# Altium schematic symbol library chip.SchLib: 107 symbols (part 2 of 2)
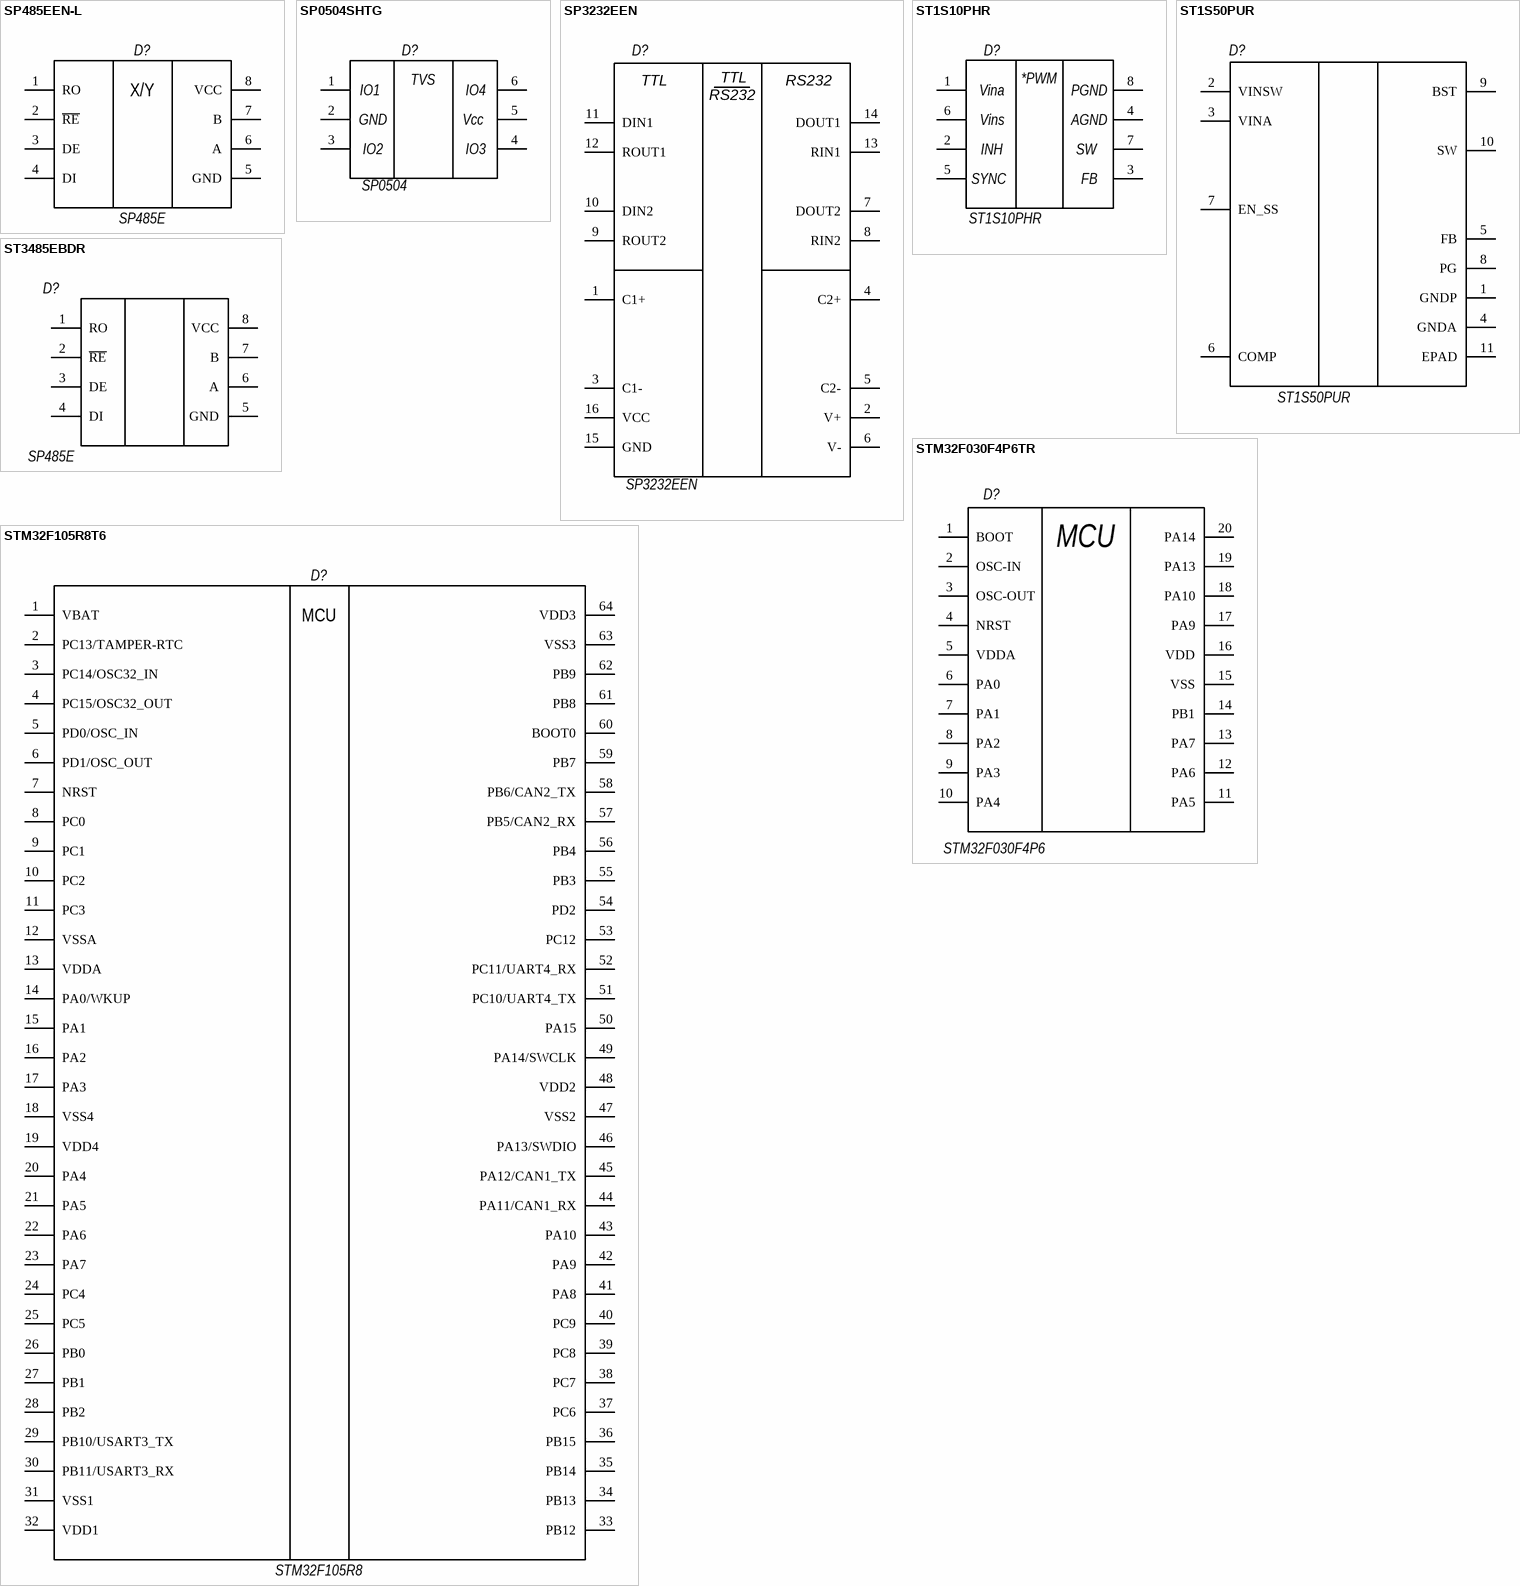
[diagram p18: symbols SP485EEN-L to STM32F105R8T6]

## ST1S10PHR
designator D?
DC-DC 2.5V to 18V Synchronous Step Down Currents up to 4A, with high switching frequency.; Manufacturer: STMicroelectronics; BOM1: SOIC-8-PowerPad ST1S10PHR; ValueBOM: ST1S10PHR   STMicroelectronics; Value: ST1S10PHR; Part Number: ST1S10PHR; Package: SOIC-8-PowerPad; BOM2: SOIC-8-PowerPad ST1S10PHR
footprint POWER_SO-8
pins: 1, 2, 3, 4, 5, 6, 7, 8
text: *PWM; Vina; PGND; Vins; AGND; INH; SW; SYNC; FB

## ST1S50PUR
designator D?
VFDFPN10 ST1S50PUR 4 A step-down switching converter; Manufacturer: ST Microelectronics; ValueBOM: ST1S50PUR   ST Microelectronics; Part Number: ST1S50PUR; Package: VFDFPN10; Value: ST1S50PUR; BOM1: VFDFPN10 ST1S50PUR; BOM2: VFDFPN10 ST1S50PUR
footprint SON50P300X100_HS-11N
pins: 1 GNDP, 2 VINSW, 3 VINA, 4 GNDA, 5 FB, 6 COMP, 7 EN_SS, 8 PG, 9 BST, 10 SW, 11 EPAD

## ST3485EBDR
designator D?, comment SP485E
SO8-RS485; Part Number: SP485EEN-L; Manufacturer: EXAR; Value: SP485E; Package: SOIC-8; Temperature Range: -40…+85°C
footprint STD_SOIC-8
pins: 1 RO, 2 ~{RE}, 3 DE, 4 DI, 5 GND, 6 A, 7 B, 8 VCC

## STM32F030F4P6TR
designator D?, comment STM32F030F4P6
STM32F0, ARM Cortex-M0+, 32-bit, 48MHz, 16К Flash, 4К RAM, 15 I/O TSSOP20; Manufacturer: STMicroelectronics; BOM1: TSSOP20 STM32F030F4P6TR; ValueBOM: STM32F030F4P6   STMicroelectronics; Part Number: STM32F030F4P6; Value: STM32F030F4P6; Package: TSSOP20; BOM2: TSSOP20 STM32F030F4P6TR
footprint TSSOP-20 (TSSOP, 20-Leads, Body 6.50x4.40mm, Pitch 0.65mm, IPC Medium Density)
pins: 1 BOOT, 2 OSC-IN, 3 OSC-OUT, 4 NRST, 5 VDDA, 6 PA0, 7 PA1, 8 PA2, 9 PA3, 10 PA4, 11 PA5, 12 PA6, 13 PA7, 14 PB1, 15 VSS, 16 VDD, 17 PA9, 18 PA10, 19 PA13, 20 PA14
text: MCU

## STM32F105R8T6
designator D?, comment STM32F105R8
LQFP64-MPU-64K-64K; Part Number: STM32F105R8T6; Manufacturer: ST Microelectronics; Value: STM32F105R8; Package: LQFP-64; Temperature Range: -40…+85°C; ComponentLink1URL: http://www.st.com/content/ccc/resource/technical/document/datasheet/e4/f3/1a/89/5a/02/46/ae/CD00220364.pdf/files/CD00220364.pdf/jcr:content/translations/en.CD00220364.pdf; ComponentLink1Description: Datasheet (Manufacturer)
footprint STD_LQFP-64
pins: 1 VBAT "Backup power supply", 2 PC13/TAMPER-RTC, 3 PC14/OSC32_IN, 4 PC15/OSC32_OUT, 5 PD0/OSC_IN, 6 PD1/OSC_OUT, 7 NRST, 8 PC0, 9 PC1, 10 PC2, 11 PC3, 12 VSSA, 13 VDDA, 14 PA0/WKUP, 15 PA1, 16 PA2, 17 PA3, 18 VSS4, 19 VDD4, 20 PA4, 21 PA5, 22 PA6, 23 PA7, 24 PC4, 25 PC5, 26 PB0, 27 PB1, 28 PB2, 29 PB10/USART3_TX, 30 PB11/USART3_RX, 31 VSS1, 32 VDD1, 33 PB12, 34 PB13, 35 PB14, 36 PB15, 37 PC6, 38 PC7, 39 PC8, 40 PC9, 41 PA8, 42 PA9, 43 PA10, 44 PA11/CAN1_RX, 45 PA12/CAN1_TX, 46 PA13/SWDIO, 47 VSS2, 48 VDD2, 49 PA14/SWCLK, 50 PA15, 51 PC10/UART4_TX, 52 PC11/UART4_RX, 53 PC12, 54 PD2, 55 PB3, 56 PB4, 57 PB5/CAN2_RX, 58 PB6/CAN2_TX, 59 PB7, 60 BOOT0, 61 PB8, 62 PB9, 63 VSS3, 64 VDD3
text: MCU

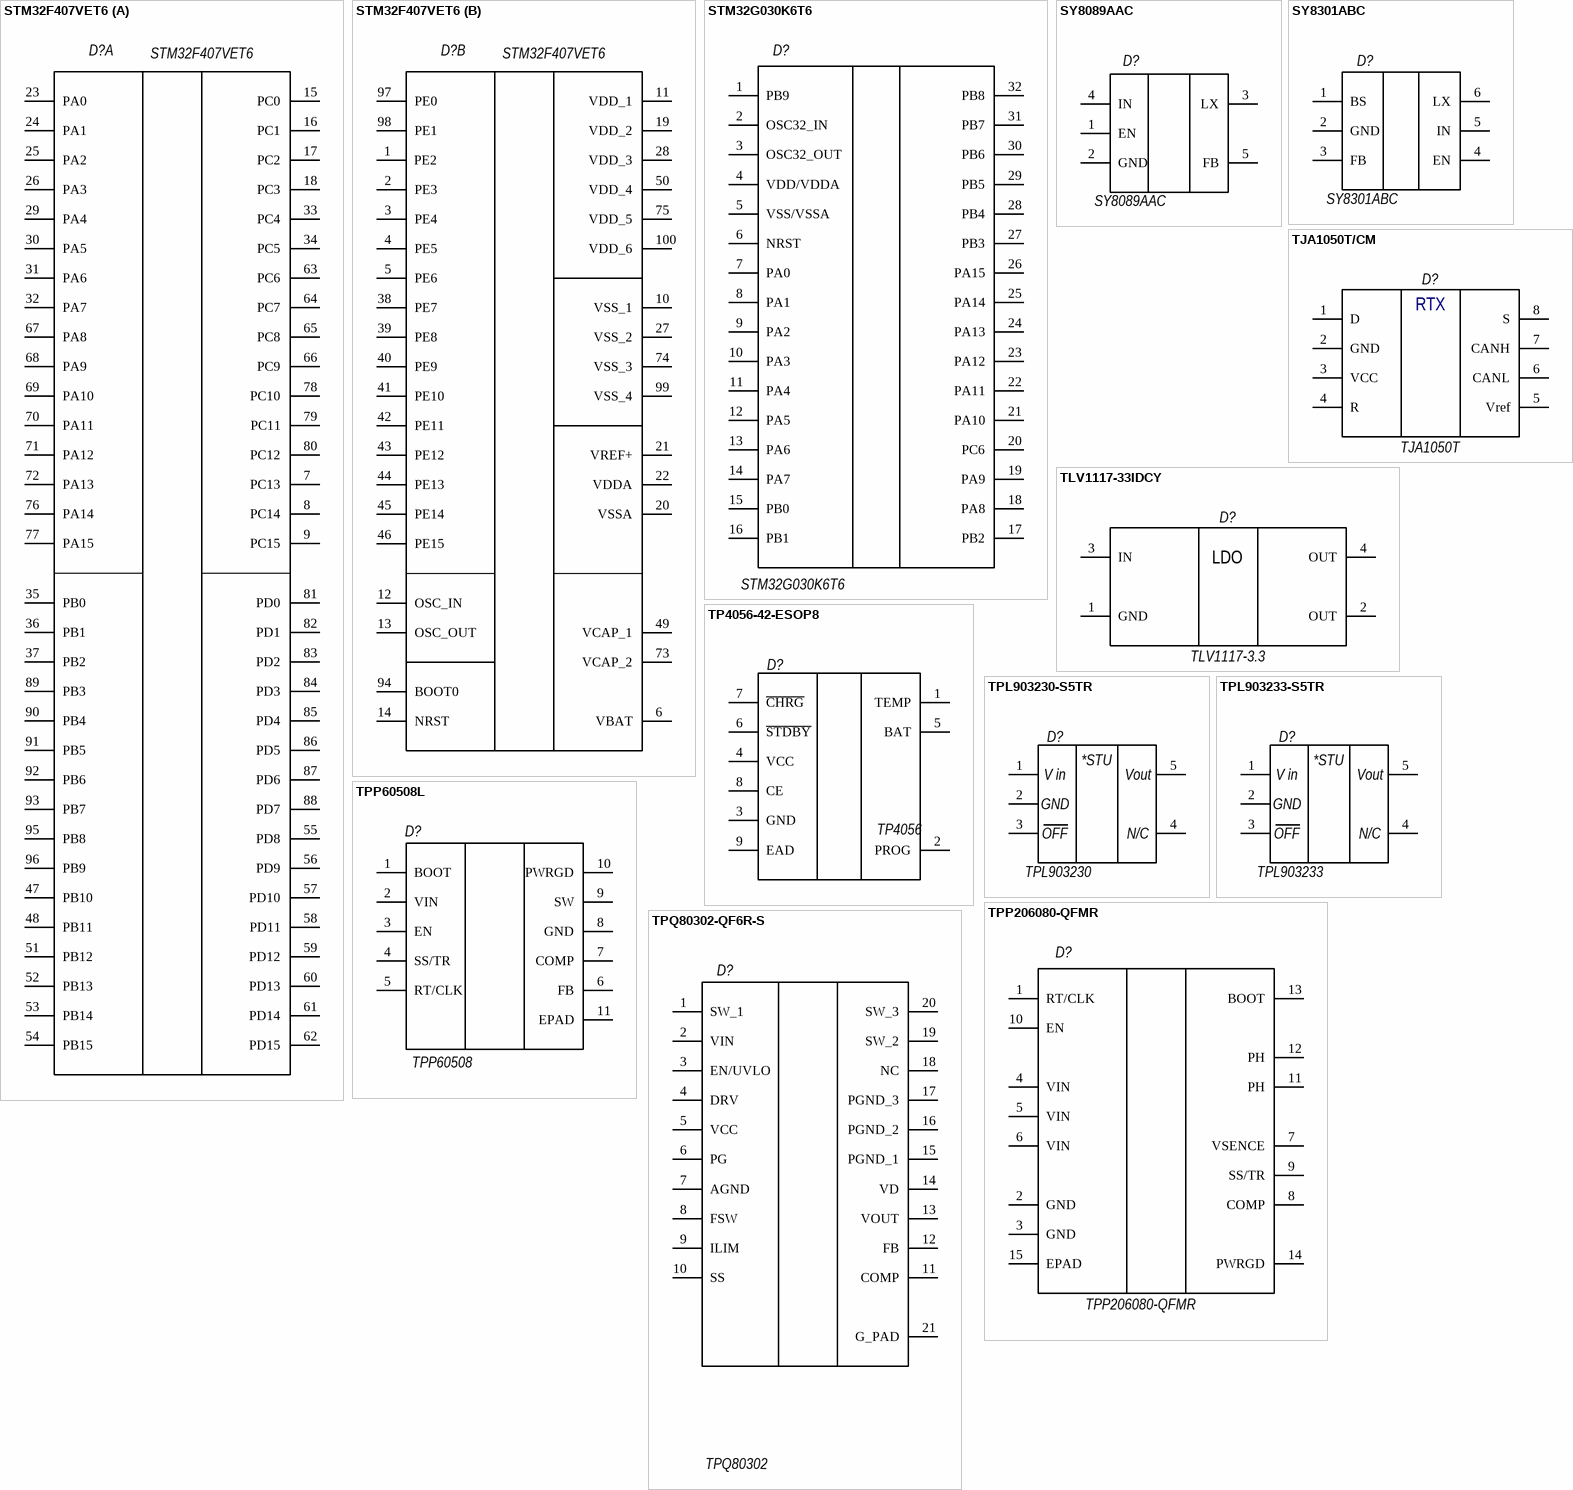
[diagram p12: symbols STM32F407VET6 to TPQ80302-QF6R-S]

## STM32F407VET6
designator D?
Arm Cortex-M4 core with DSP and FPU, 512 Kbytes of Flash memory, 168 MHz CPU, ART Accelerator, Ethernet, FSMC, LQFP 100 14x14x1.4 mm; Manufacturer: STMicroelectronics; BOM1: LQFP 100 STM32F407VET6; ValueBOM: STM32F407VET6   STMicroelectronics; Value: STM32F407VET6; Part Number: STM32F407VET6; Package: LQFP 100; BOM2: LQFP 100 STM32F407VET6
footprint QFP50P1600X1600X160-100N
part A pins: 7 PC13, 8 PC14, 9 PC15, 15 PC0, 16 PC1, 17 PC2, 18 PC3, 23 PA0, 24 PA1, 25 PA2, 26 PA3, 29 PA4, 30 PA5, 31 PA6, 32 PA7, 33 PC4, 34 PC5, 35 PB0, 36 PB1, 37 PB2, 47 PB10, 48 PB11, 51 PB12, 52 PB13, 53 PB14, 54 PB15, 55 PD8, 56 PD9, 57 PD10, 58 PD11, 59 PD12, 60 PD13, 61 PD14, 62 PD15, 63 PC6, 64 PC7, 65 PC8, 66 PC9, 67 PA8, 68 PA9, 69 PA10, 70 PA11, 71 PA12, 72 PA13, 76 PA14, 77 PA15, 78 PC10, 79 PC11, 80 PC12, 81 PD0, 82 PD1, 83 PD2, 84 PD3, 85 PD4, 86 PD5, 87 PD6, 88 PD7, 89 PB3, 90 PB4, 91 PB5, 92 PB6, 93 PB7, 95 PB8, 96 PB9
part B pins: 1 PE2, 2 PE3, 3 PE4, 4 PE5, 5 PE6, 6 VBAT, 10 VSS_1, 11 VDD_1, 12 OSC_IN, 13 OSC_OUT, 14 NRST, 19 VDD_2, 20 VSSA, 21 VREF+, 22 VDDA, 27 VSS_2, 28 VDD_3, 38 PE7, 39 PE8, 40 PE9, 41 PE10, 42 PE11, 43 PE12, 44 PE13, 45 PE14, 46 PE15, 49 VCAP_1, 50 VDD_4, 73 VCAP_2, 74 VSS_3, 75 VDD_5, 94 BOOT0, 97 PE0, 98 PE1, 99 VSS_4, 100 VDD_6

## STM32G030K6T6
designator D?
STM32G030K6T6, ARM Cortex-M0+, 32-bit, 64MHz, 32К Flash, 8К RAM, 29 I/O LQFP-32; Manufacturer: STMicroelectronics; BOM1: LQFP-32 STM32G030K6T6; ValueBOM: STM32G030K6T6   STMicroelectronics; Part Number: STM32G030K6T6; Value: STM32G030K6T6; Package: LQFP-32; ComponentLink1URL: http://www.st.com/content/ccc/resource/technical/document/datasheet/e4/f3/1a/89/5a/02/46/ae/CD00220364.pdf/files/CD00220364.pdf/jcr:content/translations/en.CD00220364.pdf; ComponentLink1Description: Datasheet (Manufacturer); BOM2: LQFP-32 STM32G030K6T6
footprint LQFP-32 (Thin QFP, 32-Leads, Body 7x7mm, Pitch 0.8mm, IPC Medium Density)
pins: 1 PB9, 2 OSC32_IN, 3 OSC32_OUT, 4 VDD/VDDA, 5 VSS/VSSA, 6 NRST, 7 PA0, 8 PA1, 9 PA2, 10 PA3, 11 PA4, 12 PA5, 13 PA6, 14 PA7, 15 PB0, 16 PB1, 17 PB2, 18 PA8, 19 PA9, 20 PC6, 21 PA10, 22 PA11, 23 PA12, 24 PA13, 25 PA14, 26 PA15, 27 PB3, 28 PB4, 29 PB5, 30 PB6, 31 PB7, 32 PB8

## SY8089AAC
designator D?
High Efficiency 5.5V, 2A continuous, 3A peak, 1MHz Synchronous Step Down Regulator; Manufacturer: Silergy; BOM1: SOT23-5 SY8089AAC; ValueBOM: SY8089AAC   Silergy; Value: SY8089AAC; Part Number: SY8089AAC; Package: SOT23-5; BOM2: SOT23-5 SY8089AAC
footprint SOT23-5N (SOT23, 5-Leads, Body 2.9x1.3mm, Pitch 0.95mm, Lead Span 2.5mm, IPC Medium Density)
footprint SOT23-5L (SOT23, 5-Leads, Body 2.9x1.3mm, Pitch 0.95mm, Lead Span 2.5mm, IPC High Density)
footprint SOT23-5M (SOT23, 5-Leads, Body 2.9x1.3mm, Pitch 0.95mm, Lead Span 2.5mm, IPC Low Density)
pins: 1 EN, 2 GND, 3 LX, 4 IN, 5 FB

## SY8301ABC
designator D?
High Efficiency 40V Input, 1A, 1.6MHz...2.4MHz Buck Adjustable 1 SOT-23-6 Voltage Regulators - DC DC Switching; Manufacturer: Silergy; BOM1: SOT23-6 SY8301ABC; ValueBOM: SY8301ABC   Silergy; Value: SY8301ABC; Part Number: SY8301ABC; Package: SOT23-6; BOM2: SOT23-6 SY8301ABC
footprint SOT23-6L (SOT23, 6-Leads, Body 2.9x1.3mm, Pitch 0.95mm, Lead Span 2.5mm, IPC High Density)
footprint SOT23-6M (SOT23, 6-Leads, Body 2.9x1.3mm, Pitch 0.95mm, Lead Span 2.5mm, IPC Low Density)
footprint SOT23-6N (SOT23, 6-Leads, Body 2.9x1.3mm, Pitch 0.95mm, Lead Span 2.5mm, IPC Medium Density)
pins: 1 BS, 2 GND, 3 FB, 4 EN, 5 IN, 6 LX

## TJA1050T/CM
designator D?, comment TJA1050T
High speed CAN transceiver SO8; Part Number: TJA1050T/CM; Manufacturer: NXP; Value: TJA1050T; Package: SOIC-8; Temperature Range: -40…+85°C
footprint STD_SOIC-8
pins: 1 D, 2 GND, 3 VCC, 4 R, 5 Vref, 6 CANL, 7 CANH, 8 S
text: RTX

## TLV1117-33IDCY
designator D?, comment TLV1117-3.3
LDO-SOT223_4-3.3V-0.8A; Part Number: TLV1117-33IDCY; Manufacturer: Texas Instruments; Value: TLV1117-3.3; Package: SOT-223-4; Temperature Range: -40…+125°C
footprint STD_SOT-223-4
pins: 1 GND, 2 OUT, 3 IN, 4 OUT
text: LDO

## TP4056-42-ESOP8
designator D?, comment TP4056
TP4056  1A Standalone Linear Li-lon Battery Charger with Thermal Regulation in SOP-8; Part Number: TP4056-42-ESOP8; Manufacturer: Nanjing Extension Microelectronics; BOM1: SOP-8 EP TP4056-42-ESOP8; ValueBOM: TP4056-42-ESOP8   Nanjing Extension Microelectronics; Value: TP4056; Package: SOP-8 EP; BOM2: SOP-8 EP TP4056-42-ESOP8
footprint POWER_SO-8
pins: 1 TEMP, 2 PROG, 3 GND, 4 VCC, 5 BAT, 6 ~{STDBY}, 7 ~{CHRG}, 8 CE, 9 EAD

## TPL903230-S5TR
designator D?, comment TPL903230
TPL903233-S5TR; Part Number: TPL903230-S5TR; Manufacturer: 3PEAK; BOM1: SOT23-5 TPL903230-S5TR; ValueBOM: TPL903230-S5TR   3PEAK; Value: TPL903230; Package: SOT23-5; BOM2: SOT23-5 TPL903230-S5TR
footprint SOT23-5N (SOT23, 5-Leads, Body 2.9x1.3mm, Pitch 0.95mm, Lead Span 2.5mm, IPC Medium Density)
pins: 1, 2, 3, 4, 5
text: *STU; V in; Vout; GND; OFF; N/C

## TPL903233-S5TR
designator D?, comment TPL903233
TPL903233-S5TR; Manufacturer: 3PEAK; BOM1: SOT23-5 TPL903233-S5TR; ValueBOM: TPL903233-S5TR   3PEAK; Value: TPL903233; Part Number: TPL903233-S5TR; Package: SOT23-5; BOM2: SOT23-5 TPL903233-S5TR
footprint SOT23-5N (SOT23, 5-Leads, Body 2.9x1.3mm, Pitch 0.95mm, Lead Span 2.5mm, IPC Medium Density)
pins: 1, 2, 3, 4, 5
text: *STU; V in; Vout; GND; OFF; N/C

## TPP60508L
designator D?, comment TPP60508
DFN4X4-10 TPP60508L1-DF9R 60-V, 5-A, Non-Synchronous Step-Down DC/DC Converter; Manufacturer: 3PEAK; ValueBOM: TPP60508L1-DF9R   3PEAK; Part Number: TPP60508L1-DF9R; Package: DFN4X4-10; Value: TPP60508; BOM1: DFN4X4-10 TPP60508L1-DF9R; BOM2: DFN4X4-10 TPP60508L1-DF9R
footprint SON80P400X400X80-11N
pins: 1 BOOT, 2 VIN, 3 EN, 4 SS/TR, 5 RT/CLK, 6 FB, 7 COMP, 8 GND, 9 SW, 10 PWRGD, 11 EPAD

## TPP206080-QFMR
designator D?
17-V Input, 6-A, Synchronous Step-Down DC-DC Voltage Converter; Manufacturer: 3PEAK; BOM1: QFN3.5X3.5-14 TPP206080-QFMR; ValueBOM: TPP206080-QFMR   3PEAK; Part Number: TPP206080-QFMR; Package: QFN3.5X3.5-14; Value: TPP206080-QFMR; BOM2: QFN3.5X3.5-14 TPP206080-QFMR
footprint QFN50P350X350X100-15N
pins: 1 RT/CLK, 2 GND, 3 GND, 4 VIN, 5 VIN, 6 VIN, 7 VSENCE, 8 COMP, 9 SS/TR, 10 EN, 11 PH, 12 PH, 13 BOOT, 14 PWRGD, 15 EPAD

## TPQ80302-QF6R-S
designator D?, comment TPQ80302
TPQ80302 80-V, 4-A Boost Converter with Load Switch; Part Number: TPQ80302-QF6R-S; Manufacturer: 3PEAK; BOM1: SMD QFN3.5X3.5-20 TPQ80302-QF6R-S; ValueBOM: TPQ80302-QF6R-S   3PEAK; Value: TPQ80302; Package: SMD QFN3.5X3.5-20; BOM2: SMD QFN3.5X3.5-20 TPQ80302-QF6R-S
footprint QFN50P350X350X80-21N-D
pins: 1 SW_1, 2 VIN, 3 EN/UVLO, 4 DRV, 5 VCC, 6 PG, 7 AGND, 8 FSW, 9 ILIM, 10 SS, 11 COMP, 12 FB, 13 VOUT, 14 VD, 15 PGND_1, 16 PGND_2, 17 PGND_3, 18 NC, 19 SW_2, 20 SW_3, 21 G_PAD

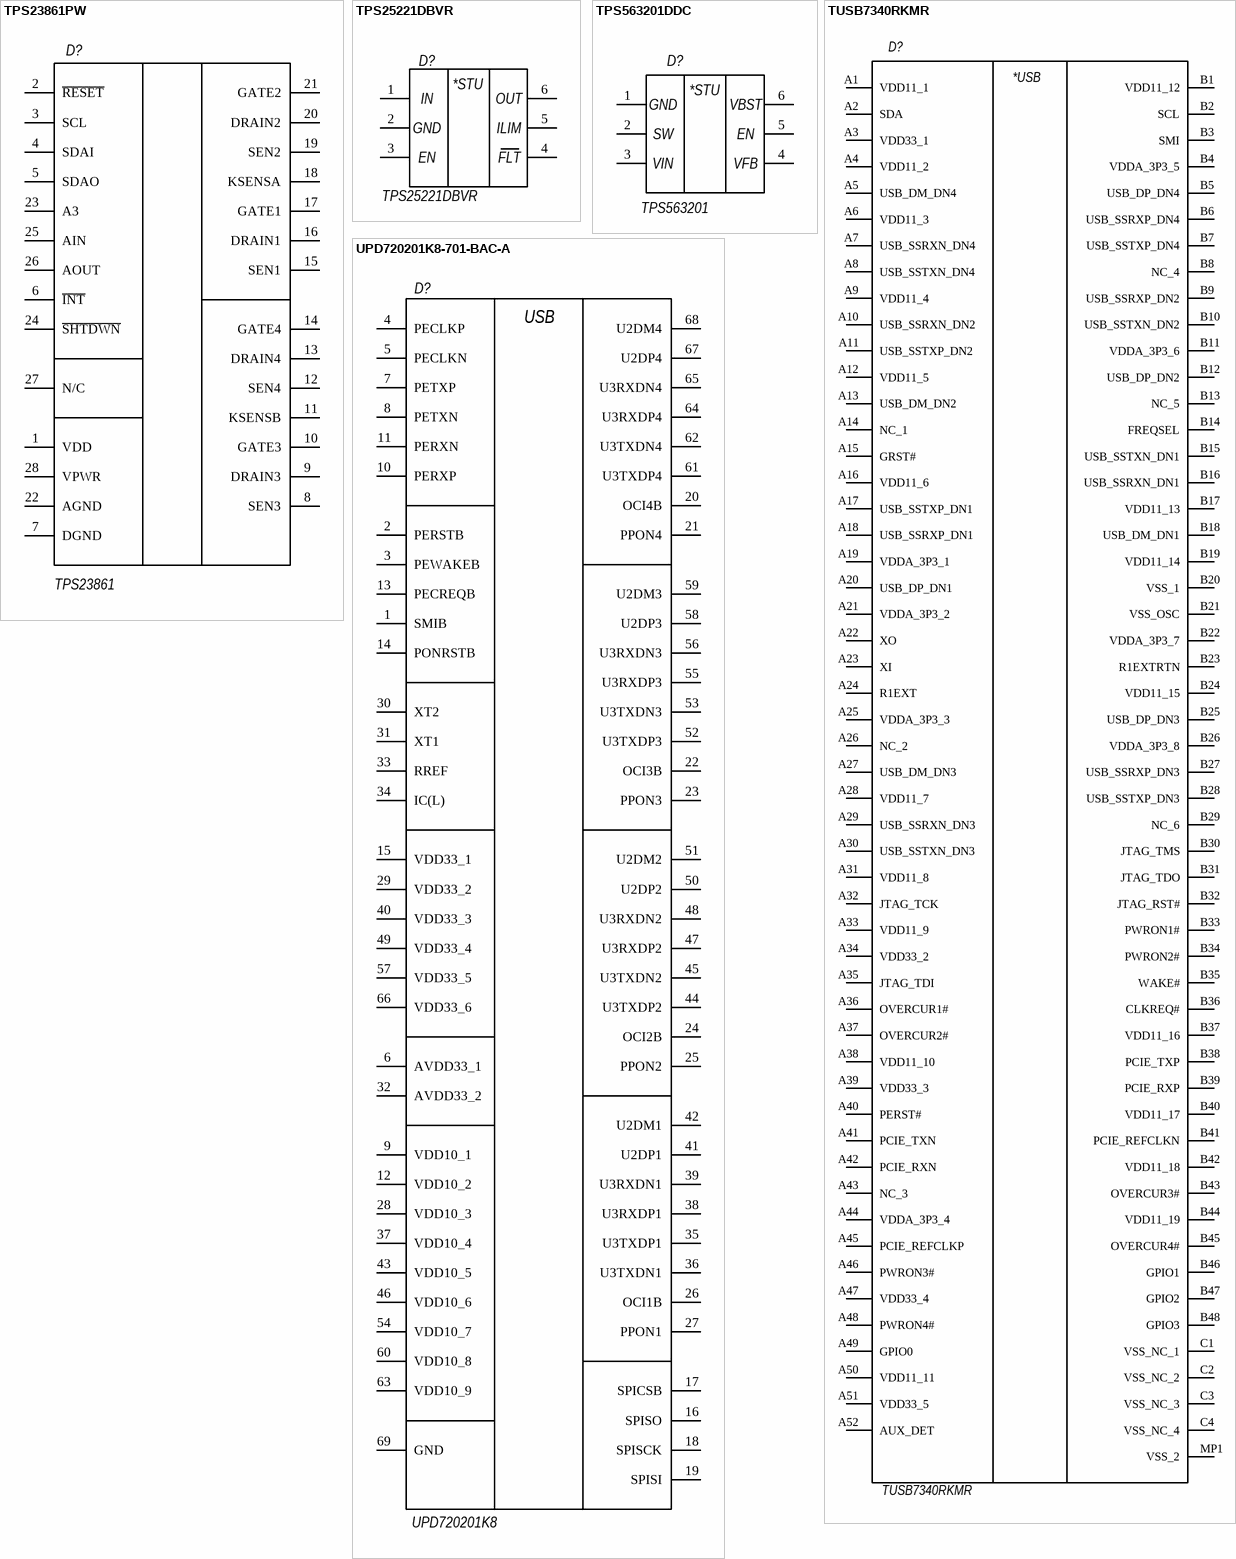
[diagram p13: symbols TPS23861PW to UPD720201K8-701-BAC-A]

## TPS23861PW
designator D?, comment TPS23861
TPS23861 IEEE 802.3at Quad Port Power-over-Ethernet PSE Controller; Manufacturer: TI; Part Number: TPS23861PW; BOM1: TSSOP-28 TPS23861PW; ValueBOM: TPS23861PW   TI; Package: TSSOP-28; Value: TPS23861; BOM2: TSSOP-28 TPS23861PW
footprint SOP65P640X120-28N
pins: 1 VDD, 2 ~{RESET}, 3 SCL, 4 SDAI, 5 SDAO, 6 ~{INT}, 7 DGND, 8 SEN3, 9 DRAIN3, 10 GATE3, 11 KSENSB, 12 SEN4, 13 DRAIN4, 14 GATE4, 15 SEN1, 16 DRAIN1, 17 GATE1, 18 KSENSA, 19 SEN2, 20 DRAIN2, 21 GATE2, 22 AGND, 23 A3, 24 ~{SHTDWN}, 25 AIN, 26 AOUT, 27 N/C, 28 VPWR

## TPS25221DBVR
designator D?
TPS25221 2.5-V to 5.5-V, 2-A Continuous Current Limited Switch; Manufacturer: Texas Instruments; BOM1: SOT23-6 TPS25221DBVR; ValueBOM: TPS25221DBVR   Texas Instruments; Value: TPS25221DBVR; Part Number: TPS25221DBVR; Package: SOT23-6; BOM2: SOT23-6 TPS25221DBVR
footprint SOT23-6N (SOT23, 6-Leads, Body 2.9x1.3mm, Pitch 0.95mm, Lead Span 2.5mm, IPC Medium Density)
footprint SOT23-6M (SOT23, 6-Leads, Body 2.9x1.3mm, Pitch 0.95mm, Lead Span 2.5mm, IPC Low Density)
footprint SOT23-6L (SOT23, 6-Leads, Body 2.9x1.3mm, Pitch 0.95mm, Lead Span 2.5mm, IPC High Density)
pins: 1, 2, 3, 4, 5, 6
text: *STU; IN; OUT; GND; ILIM; EN; FLT

## TPS563201DDC
designator D?, comment TPS563201
TPS56320x 4.5V to 17V Input, 3A Synchronous Step-Down Voltage Regulator in SOT-23; Part Number: TPS563201DDC; Manufacturer: Texas Instruments; BOM1: SOT23-6 TPS563201DDC; ValueBOM: TPS563201DDC   Texas Instruments; Value: TPS563201; Package: SOT23-6; BOM2: SOT23-6 TPS563201DDC
footprint SOT23-6N (SOT23, 6-Leads, Body 2.9x1.3mm, Pitch 0.95mm, Lead Span 2.5mm, IPC Medium Density)
footprint SOT23-6M (SOT23, 6-Leads, Body 2.9x1.3mm, Pitch 0.95mm, Lead Span 2.5mm, IPC Low Density)
footprint SOT23-6L (SOT23, 6-Leads, Body 2.9x1.3mm, Pitch 0.95mm, Lead Span 2.5mm, IPC High Density)
pins: 1, 2, 3, 4, 5, 6
1 alternate drawing of the same symbol
text: *STU; GND; VBST; SW; EN; VIN; VFB

## TUSB7340RKMR
designator D?
TUSB7340RKMR, Super Speed Host Controller USB 2.0/USB 3.0 1.1V/3.3V T/R 100-Pin WQFN EP; Manufacturer: Texas Instruments; BOM1: 100-Pin WQFN EP TUSB7340RKMR; ValueBOM: TUSB7340RKMR   Texas Instruments; Value: TUSB7340RKMR; Part Number: TUSB7340RKMR; Package: 100-Pin WQFN EP; BOM2: 100-Pin WQFN EP TUSB7340RKMR
footprint TUSB7340RKMR
pins: A1 VDD11_1, A2 SDA, A3 VDD33_1, A4 VDD11_2, A5 USB_DM_DN4, A6 VDD11_3, A7 USB_SSRXN_DN4, A8 USB_SSTXN_DN4, A9 VDD11_4, A10 USB_SSRXN_DN2, A11 USB_SSTXP_DN2, A12 VDD11_5, A13 USB_DM_DN2, A14 NC_1, A15 GRST#, A16 VDD11_6, A17 USB_SSTXP_DN1, A18 USB_SSRXP_DN1, A19 VDDA_3P3_1, A20 USB_DP_DN1, A21 VDDA_3P3_2, A22 XO, A23 XI, A24 R1EXT, A25 VDDA_3P3_3, A26 NC_2, A27 USB_DM_DN3, A28 VDD11_7, A29 USB_SSRXN_DN3, A30 USB_SSTXN_DN3, A31 VDD11_8, A32 JTAG_TCK, A33 VDD11_9, A34 VDD33_2, A35 JTAG_TDI, A36 OVERCUR1#, A37 OVERCUR2#, A38 VDD11_10, A39 VDD33_3, A40 PERST#, A41 PCIE_TXN, A42 PCIE_RXN, A43 NC_3, A44 VDDA_3P3_4, A45 PCIE_REFCLKP, A46 PWRON3#, A47 VDD33_4, A48 PWRON4#, A49 GPIO0, A50 VDD11_11, A51 VDD33_5, A52 AUX_DET, B1 VDD11_12, B2 SCL, B3 SMI, B4 VDDA_3P3_5, B5 USB_DP_DN4, B6 USB_SSRXP_DN4, B7 USB_SSTXP_DN4, B8 NC_4, B9 USB_SSRXP_DN2, B10 USB_SSTXN_DN2, B11 VDDA_3P3_6, B12 USB_DP_DN2, B13 NC_5, B14 FREQSEL, B15 USB_SSTXN_DN1, B16 USB_SSRXN_DN1, B17 VDD11_13, B18 USB_DM_DN1, B19 VDD11_14, B20 VSS_1, B21 VSS_OSC, B22 VDDA_3P3_7, B23 R1EXTRTN, B24 VDD11_15, B25 USB_DP_DN3, B26 VDDA_3P3_8, B27 USB_SSRXP_DN3, B28 USB_SSTXP_DN3, B29 NC_6, B30 JTAG_TMS, B31 JTAG_TDO, B32 JTAG_RST#, B33 PWRON1#, B34 PWRON2#, B35 WAKE#, B36 CLKREQ#, B37 VDD11_16, B38 PCIE_TXP, B39 PCIE_RXP, B40 VDD11_17, B41 PCIE_REFCLKN, B42 VDD11_18, B43 OVERCUR3#, B44 VDD11_19, B45 OVERCUR4#, B46 GPIO1, B47 GPIO2, B48 GPIO3, C1 VSS_NC_1, C2 VSS_NC_2, C3 VSS_NC_3, C4 VSS_NC_4, MP1 VSS_2
text: *USB

## UPD720201K8-701-BAC-A
designator D?, comment UPD720201K8
USB host controller LSI compatible with the USB 3.0 and xHCI (eXtensible Host Controller Interface) 1.0 specifications.; Manufacturer: Renesas; Part Number: UPD720201K8-701-BAC-A; BOM1: 68-pin QFN (8 × 8) UPD720201K8-701-BAC-A; ValueBOM: UPD720201K8-701-BAC-A   Renesas; Package: 68-pin QFN (8 × 8); Value: UPD720201K8; BOM2: 68-pin QFN (8 × 8) UPD720201K8-701-BAC-A
footprint QFN40P800X800X90-69N-D
pins: 1 SMIB, 2 PERSTB, 3 PEWAKEB, 4 PECLKP, 5 PECLKN, 6 AVDD33_1, 7 PETXP, 8 PETXN, 9 VDD10_1, 10 PERXP, 11 PERXN, 12 VDD10_2, 13 PECREQB, 14 PONRSTB, 15 VDD33_1, 16 SPISO, 17 SPICSB, 18 SPISCK, 19 SPISI, 20 OCI4B, 21 PPON4, 22 OCI3B, 23 PPON3, 24 OCI2B, 25 PPON2, 26 OCI1B, 27 PPON1, 28 VDD10_3, 29 VDD33_2, 30 XT2, 31 XT1, 32 AVDD33_2, 33 RREF, 34 IC(L), 35 U3TXDP1, 36 U3TXDN1, 37 VDD10_4, 38 U3RXDP1, 39 U3RXDN1, 40 VDD33_3, 41 U2DP1, 42 U2DM1, 43 VDD10_5, 44 U3TXDP2, 45 U3TXDN2, 46 VDD10_6, 47 U3RXDP2, 48 U3RXDN2, 49 VDD33_4, 50 U2DP2, 51 U2DM2, 52 U3TXDP3, 53 U3TXDN3, 54 VDD10_7, 55 U3RXDP3, 56 U3RXDN3, 57 VDD33_5, 58 U2DP3, 59 U2DM3, 60 VDD10_8, 61 U3TXDP4, 62 U3TXDN4, 63 VDD10_9, 64 U3RXDP4, 65 U3RXDN4, 66 VDD33_6, 67 U2DP4, 68 U2DM4, 69 GND
text: USB

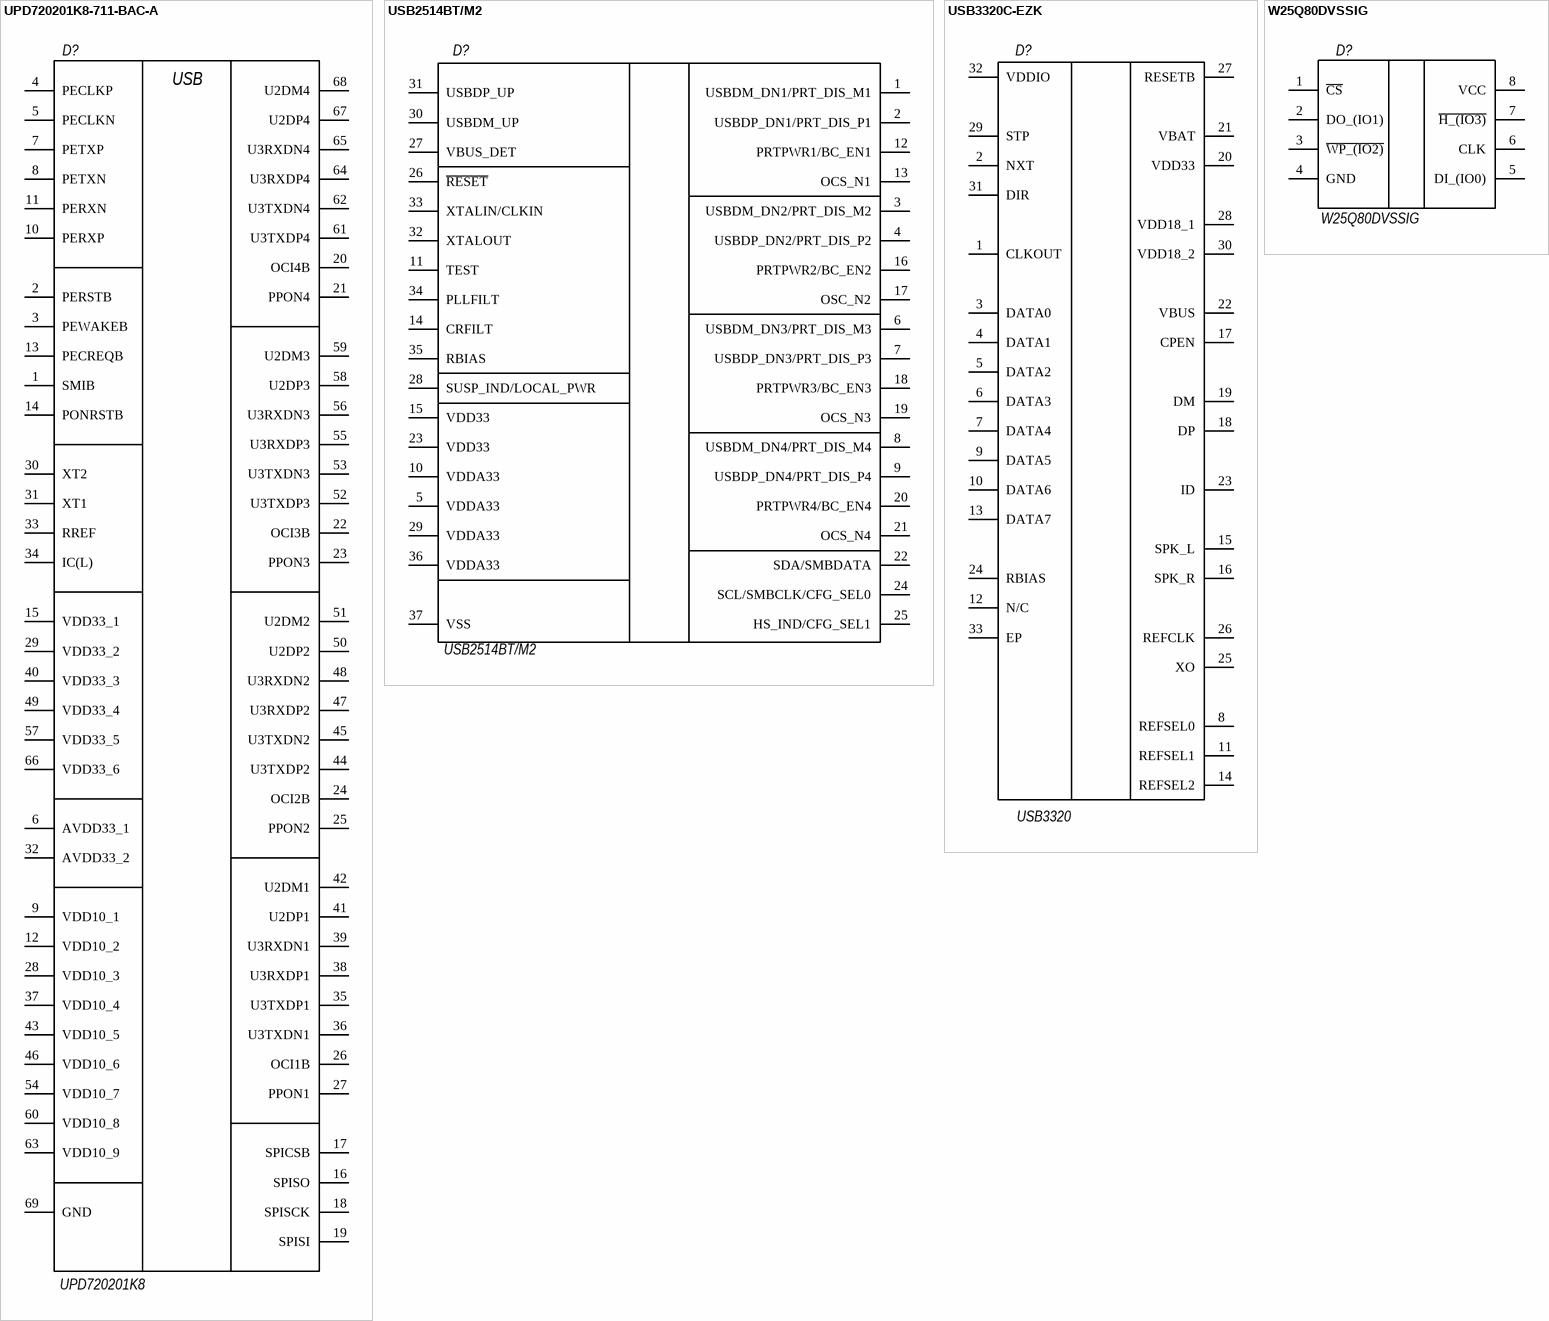
[diagram p14: symbols UPD720201K8-711-BAC-A to W25Q80DVSSIG]

## UPD720201K8-711-BAC-A
designator D?, comment UPD720201K8
USB host controller LSI compatible with the USB 3.0 and xHCI (eXtensible Host Controller Interface) 1.0 specifications.; Manufacturer: Renesas; Part Number: UPD720201K8-711-BAC-A; BOM1: 68-pin QFN (8 × 8) UPD720201K8-711-BAC-A; ValueBOM: UPD720201K8-711-BAC-A   Renesas; Package: 68-pin QFN (8 × 8); Value: UPD720201K8; BOM2: 68-pin QFN (8 × 8) UPD720201K8-711-BAC-A
footprint QFN40P800X800X90-69N-D
pins: 1 SMIB, 2 PERSTB, 3 PEWAKEB, 4 PECLKP, 5 PECLKN, 6 AVDD33_1, 7 PETXP, 8 PETXN, 9 VDD10_1, 10 PERXP, 11 PERXN, 12 VDD10_2, 13 PECREQB, 14 PONRSTB, 15 VDD33_1, 16 SPISO, 17 SPICSB, 18 SPISCK, 19 SPISI, 20 OCI4B, 21 PPON4, 22 OCI3B, 23 PPON3, 24 OCI2B, 25 PPON2, 26 OCI1B, 27 PPON1, 28 VDD10_3, 29 VDD33_2, 30 XT2, 31 XT1, 32 AVDD33_2, 33 RREF, 34 IC(L), 35 U3TXDP1, 36 U3TXDN1, 37 VDD10_4, 38 U3RXDP1, 39 U3RXDN1, 40 VDD33_3, 41 U2DP1, 42 U2DM1, 43 VDD10_5, 44 U3TXDP2, 45 U3TXDN2, 46 VDD10_6, 47 U3RXDP2, 48 U3RXDN2, 49 VDD33_4, 50 U2DP2, 51 U2DM2, 52 U3TXDP3, 53 U3TXDN3, 54 VDD10_7, 55 U3RXDP3, 56 U3RXDN3, 57 VDD33_5, 58 U2DP3, 59 U2DM3, 60 VDD10_8, 61 U3TXDP4, 62 U3TXDN4, 63 VDD10_9, 64 U3RXDP4, 65 U3RXDN4, 66 VDD33_6, 67 U2DP4, 68 U2DM4, 69 GND
text: USB

## USB2514BT/M2
designator D?
USB Interface 36-SQFN (6x6); Manufacturer: Microchip; BOM1: VFQFN-36 USB2514BT/M2; ValueBOM: USB2514BT/M2   Microchip; Package: VFQFN-36; Value: USB2514BT/M2; Part Number: USB2514BT/M2; BOM2: VFQFN-36 USB2514BT/M2
footprint QFN50P600X600X100-37N
pins: 1 USBDM_DN1/PRT_DIS_M1, 2 USBDP_DN1/PRT_DIS_P1, 3 USBDM_DN2/PRT_DIS_M2, 4 USBDP_DN2/PRT_DIS_P2, 5 VDDA33, 6 USBDM_DN3/PRT_DIS_M3, 7 USBDP_DN3/PRT_DIS_P3, 8 USBDM_DN4/PRT_DIS_M4, 9 USBDP_DN4/PRT_DIS_P4, 10 VDDA33, 11 TEST, 12 PRTPWR1/BC_EN1, 13 OCS_N1, 14 CRFILT, 15 VDD33, 16 PRTPWR2/BC_EN2, 17 OSC_N2, 18 PRTPWR3/BC_EN3, 19 OCS_N3, 20 PRTPWR4/BC_EN4, 21 OCS_N4, 22 SDA/SMBDATA, 23 VDD33, 24 SCL/SMBCLK/CFG_SEL0, 25 HS_IND/CFG_SEL1, 26 ~{RESET}, 27 VBUS_DET, 28 SUSP_IND/LOCAL_PWR, 29 VDDA33, 30 USBDM_UP, 31 USBDP_UP, 32 XTALOUT, 33 XTALIN/CLKIN, 34 PLLFILT, 35 RBIAS, 36 VDDA33, 37 VSS

## USB3320C-EZK
designator D?, comment USB3320
USB Interface 36-SQFN (6x6); Manufacturer: Microchip; Part Number: USB3320C-EZK; BOM1: QFN32-EPAD USB2514BT/M2; ValueBOM: USB3320C-EZK   Microchip; Package: QFN32-EPAD; Value: USB3320; BOM2: QFN32-EPAD USB2514BT/M2
footprint QFN32-EPAD_5X5_P050 (QFN50P500X500X100-33N)
pins: 1 CLKOUT, 2 NXT, 3 DATA0, 4 DATA1, 5 DATA2, 6 DATA3, 7 DATA4, 8 REFSEL0, 9 DATA5, 10 DATA6, 11 REFSEL1, 12 N/C, 13 DATA7, 14 REFSEL2, 15 SPK_L, 16 SPK_R, 17 CPEN, 18 DP, 19 DM, 20 VDD33, 21 VBAT, 22 VBUS, 23 ID, 24 RBIAS, 25 XO, 26 REFCLK, 27 RESETB, 28 VDD18_1, 29 STP, 30 VDD18_2, 31 DIR, 32 VDDIO, 33 EP

## W25Q80DVSSIG
designator D?
Manufacturer: Winbond; BOM1: SOIC-8 208mil W25Q80DVSSIG; ValueBOM: W25Q80DVSSIG   Winbond; Value: W25Q80DVSSIG; Part Number: W25Q80DVSSIG; Package: SOIC-8 208mil; BOM2: SOIC-8 208mil W25Q80DVSSIG
footprint SOIC-8N-150
footprint SOIC-8N-208
pins: 1 ~{CS}, 2 DO_(IO1), 3 ~{WP_(IO2)}, 4 GND, 5 DI_(IO0), 6 CLK, 7 ~{H_(IO3)}, 8 VCC

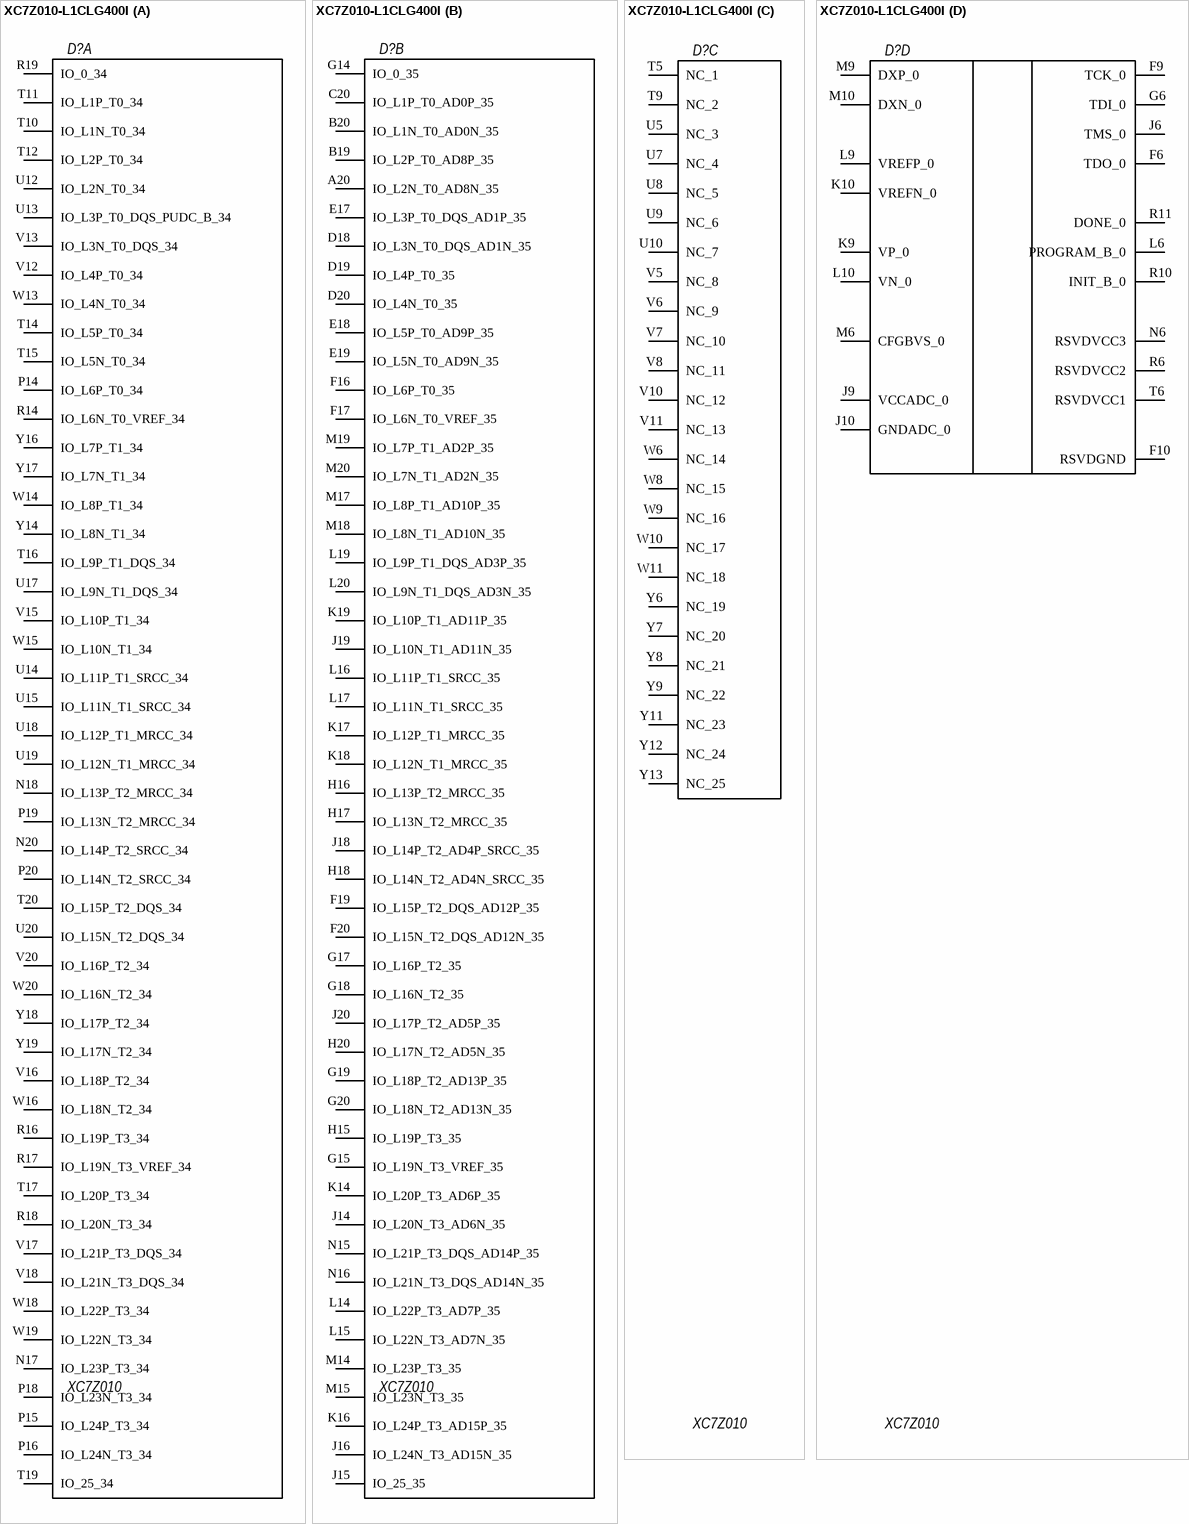
[diagram p15: symbol XC7Z010-L1CLG400I]

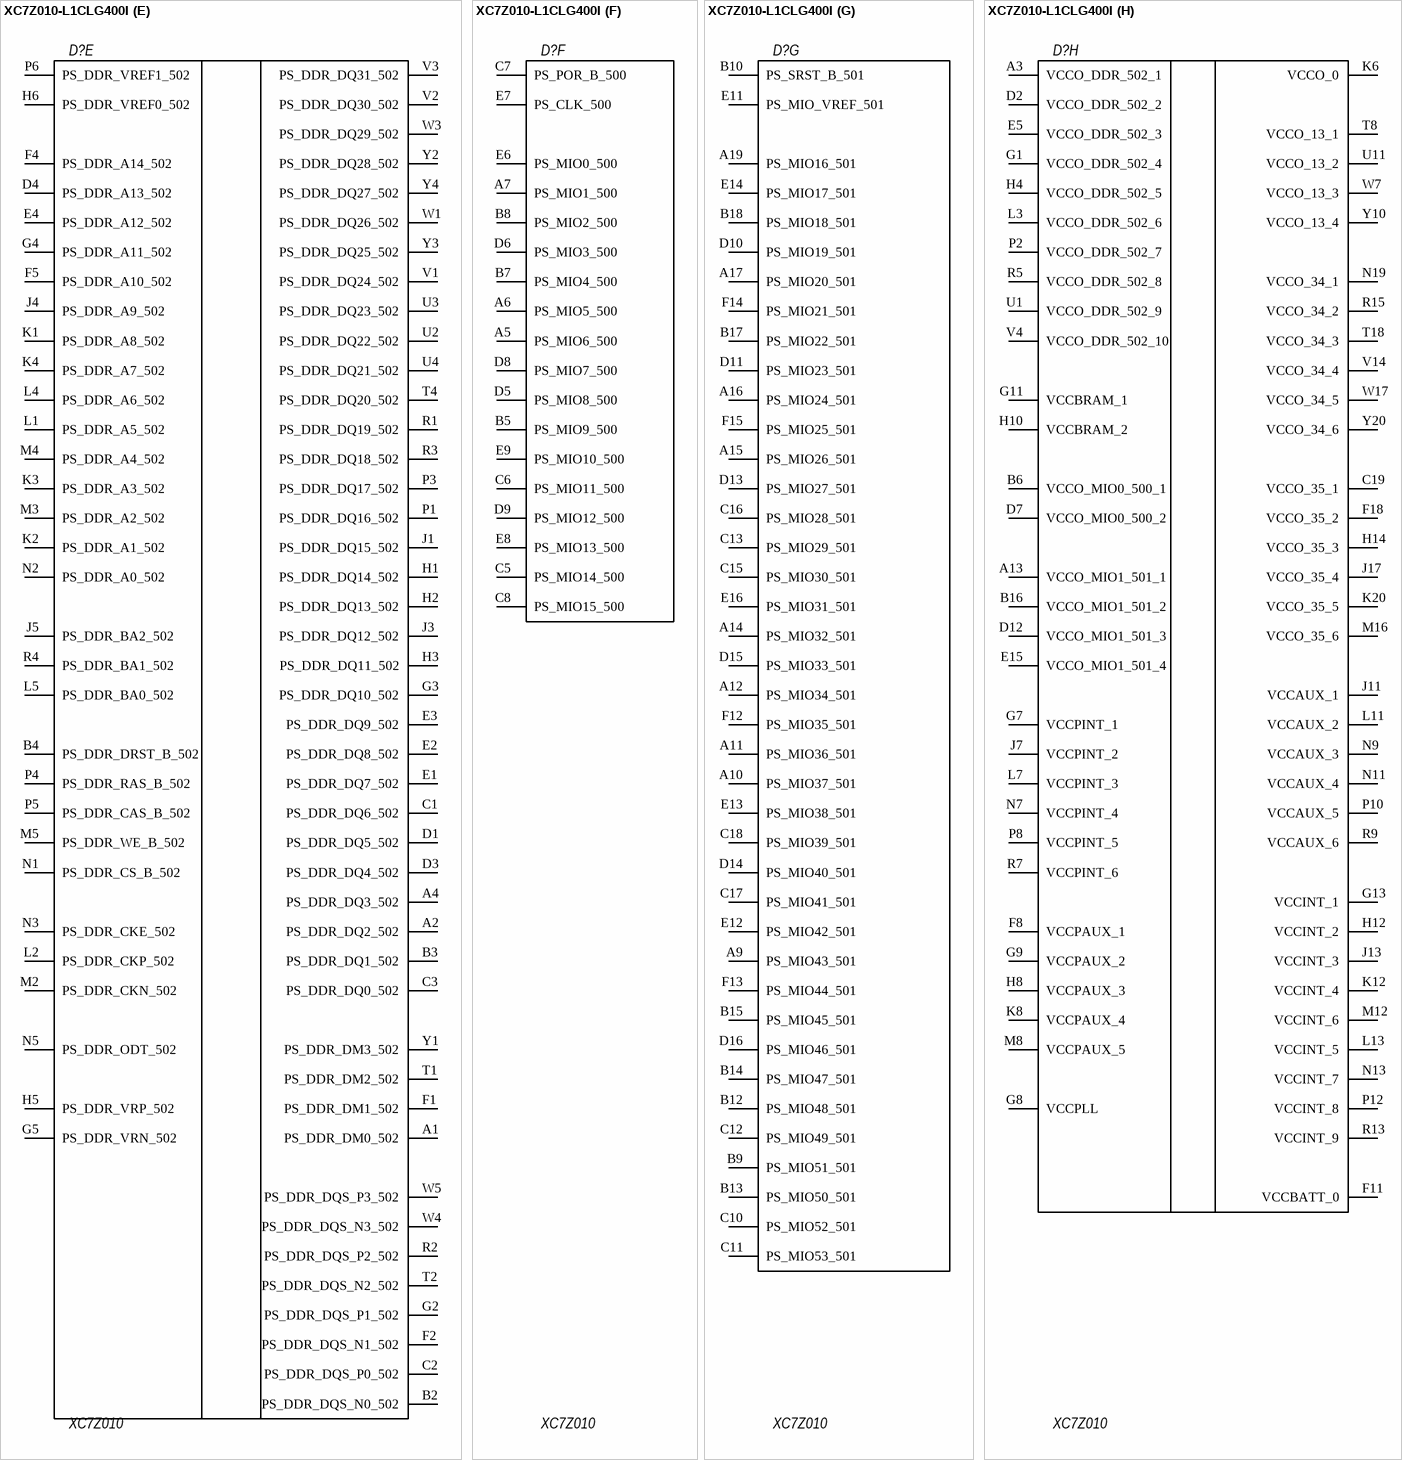
[diagram p16: symbol XC7Z010-L1CLG400I]

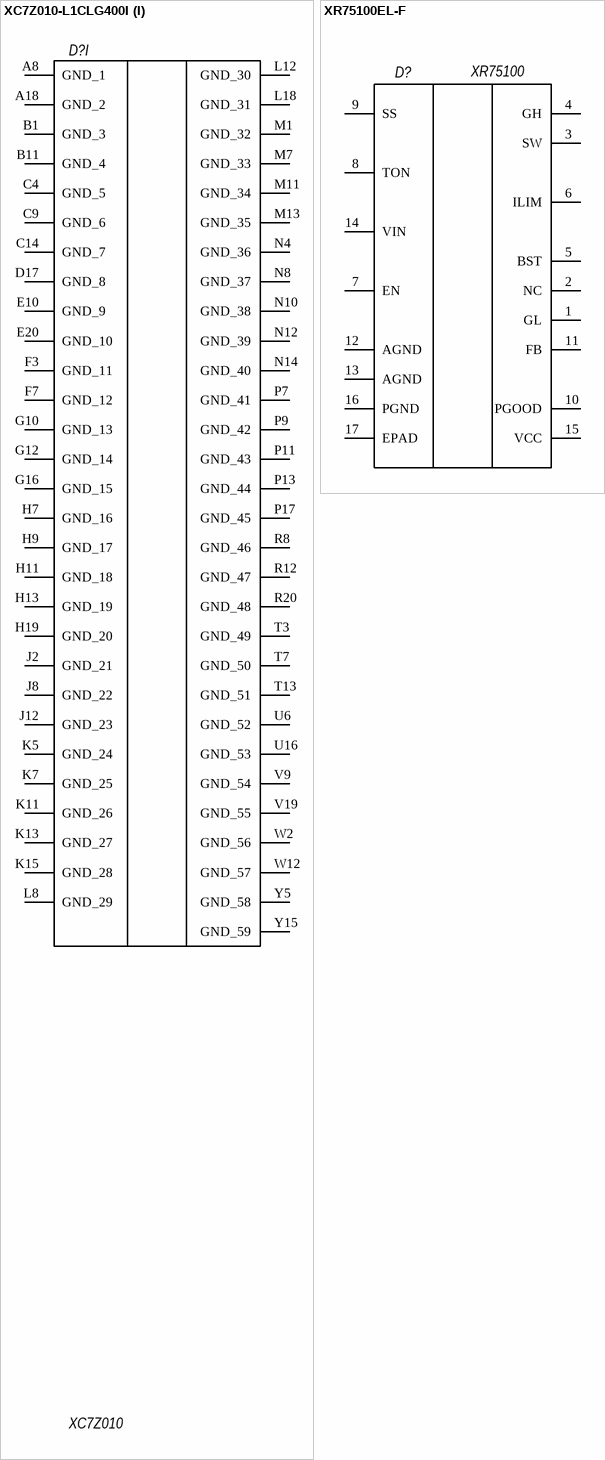
[diagram p17: symbols XC7Z010-L1CLG400I to XR75100EL-F]

## XC7Z010-L1CLG400I
designator D?, comment XC7Z010
BGA400C80P20X20 XC7Z010-L1CLG400I; Manufacturer: AMD; ValueBOM: XC7Z010-L1CLG400I   AMD; Part Number: XC7Z010-L1CLG400I; Package: BGA400C80P20X20; Value: XC7Z010; BOM1: BGA400C80P20X20 XC7Z010-L1CLG400I; BOM2: BGA400C80P20X20 XC7Z010-L1CLG400I
footprint XC7Z010-1CLG400I CLG400--0.35 (XC7Z010-1CLG400I CLG400--0.35mm)
part A pins: N17 IO_L23P_T3_34, N18 IO_L13P_T2_MRCC_34, N20 IO_L14P_T2_SRCC_34, P14 IO_L6P_T0_34, P15 IO_L24P_T3_34, P16 IO_L24N_T3_34, P18 IO_L23N_T3_34, P19 IO_L13N_T2_MRCC_34, P20 IO_L14N_T2_SRCC_34, R14 IO_L6N_T0_VREF_34, R16 IO_L19P_T3_34, R17 IO_L19N_T3_VREF_34, R18 IO_L20N_T3_34, R19 IO_0_34, T10 IO_L1N_T0_34, T11 IO_L1P_T0_34, T12 IO_L2P_T0_34, T14 IO_L5P_T0_34, T15 IO_L5N_T0_34, T16 IO_L9P_T1_DQS_34, T17 IO_L20P_T3_34, T19 IO_25_34, T20 IO_L15P_T2_DQS_34, U12 IO_L2N_T0_34, U13 IO_L3P_T0_DQS_PUDC_B_34, U14 IO_L11P_T1_SRCC_34, U15 IO_L11N_T1_SRCC_34, U17 IO_L9N_T1_DQS_34, U18 IO_L12P_T1_MRCC_34, U19 IO_L12N_T1_MRCC_34, U20 IO_L15N_T2_DQS_34, V12 IO_L4P_T0_34, V13 IO_L3N_T0_DQS_34, V15 IO_L10P_T1_34, V16 IO_L18P_T2_34, V17 IO_L21P_T3_DQS_34, V18 IO_L21N_T3_DQS_34, V20 IO_L16P_T2_34, W13 IO_L4N_T0_34, W14 IO_L8P_T1_34, W15 IO_L10N_T1_34, W16 IO_L18N_T2_34, W18 IO_L22P_T3_34, W19 IO_L22N_T3_34, W20 IO_L16N_T2_34, Y14 IO_L8N_T1_34, Y16 IO_L7P_T1_34, Y17 IO_L7N_T1_34, Y18 IO_L17P_T2_34, Y19 IO_L17N_T2_34
part B pins: A20 IO_L2N_T0_AD8N_35, B19 IO_L2P_T0_AD8P_35, B20 IO_L1N_T0_AD0N_35, C20 IO_L1P_T0_AD0P_35, D18 IO_L3N_T0_DQS_AD1N_35, D19 IO_L4P_T0_35, D20 IO_L4N_T0_35, E17 IO_L3P_T0_DQS_AD1P_35, E18 IO_L5P_T0_AD9P_35, E19 IO_L5N_T0_AD9N_35, F16 IO_L6P_T0_35, F17 IO_L6N_T0_VREF_35, F19 IO_L15P_T2_DQS_AD12P_35, F20 IO_L15N_T2_DQS_AD12N_35, G14 IO_0_35, G15 IO_L19N_T3_VREF_35, G17 IO_L16P_T2_35, G18 IO_L16N_T2_35, G19 IO_L18P_T2_AD13P_35, G20 IO_L18N_T2_AD13N_35, H15 IO_L19P_T3_35, H16 IO_L13P_T2_MRCC_35, H17 IO_L13N_T2_MRCC_35, H18 IO_L14N_T2_AD4N_SRCC_35, H20 IO_L17N_T2_AD5N_35, J14 IO_L20N_T3_AD6N_35, J15 IO_25_35, J16 IO_L24N_T3_AD15N_35, J18 IO_L14P_T2_AD4P_SRCC_35, J19 IO_L10N_T1_AD11N_35, J20 IO_L17P_T2_AD5P_35, K14 IO_L20P_T3_AD6P_35, K16 IO_L24P_T3_AD15P_35, K17 IO_L12P_T1_MRCC_35, K18 IO_L12N_T1_MRCC_35, K19 IO_L10P_T1_AD11P_35, L14 IO_L22P_T3_AD7P_35, L15 IO_L22N_T3_AD7N_35, L16 IO_L11P_T1_SRCC_35, L17 IO_L11N_T1_SRCC_35, L19 IO_L9P_T1_DQS_AD3P_35, L20 IO_L9N_T1_DQS_AD3N_35, M14 IO_L23P_T3_35, M15 IO_L23N_T3_35, M17 IO_L8P_T1_AD10P_35, M18 IO_L8N_T1_AD10N_35, M19 IO_L7P_T1_AD2P_35, M20 IO_L7N_T1_AD2N_35, N15 IO_L21P_T3_DQS_AD14P_35, N16 IO_L21N_T3_DQS_AD14N_35
part C pins: T5 NC_1, T9 NC_2, U5 NC_3, U7 NC_4, U8 NC_5, U9 NC_6, U10 NC_7, V5 NC_8, V6 NC_9, V7 NC_10, V8 NC_11, V10 NC_12, V11 NC_13, W6 NC_14, W8 NC_15, W9 NC_16, W10 NC_17, W11 NC_18, Y6 NC_19, Y7 NC_20, Y8 NC_21, Y9 NC_22, Y11 NC_23, Y12 NC_24, Y13 NC_25
part D pins: F6 TDO_0, F9 TCK_0, F10 RSVDGND, G6 TDI_0, J6 TMS_0, J9 VCCADC_0, J10 GNDADC_0, K9 VP_0, K10 VREFN_0, L6 PROGRAM_B_0, L9 VREFP_0, L10 VN_0, M6 CFGBVS_0, M9 DXP_0, M10 DXN_0, N6 RSVDVCC3, R6 RSVDVCC2, R10 INIT_B_0, R11 DONE_0, T6 RSVDVCC1
part E pins: A1 PS_DDR_DM0_502, A2 PS_DDR_DQ2_502, A4 PS_DDR_DQ3_502, B2 PS_DDR_DQS_N0_502, B3 PS_DDR_DQ1_502, B4 PS_DDR_DRST_B_502, C1 PS_DDR_DQ6_502, C2 PS_DDR_DQS_P0_502, C3 PS_DDR_DQ0_502, D1 PS_DDR_DQ5_502, D3 PS_DDR_DQ4_502, D4 PS_DDR_A13_502, E1 PS_DDR_DQ7_502, E2 PS_DDR_DQ8_502, E3 PS_DDR_DQ9_502, E4 PS_DDR_A12_502, F1 PS_DDR_DM1_502, F2 PS_DDR_DQS_N1_502, F4 PS_DDR_A14_502, F5 PS_DDR_A10_502, G2 PS_DDR_DQS_P1_502, G3 PS_DDR_DQ10_502, G4 PS_DDR_A11_502, G5 PS_DDR_VRN_502, H1 PS_DDR_DQ14_502, H2 PS_DDR_DQ13_502, H3 PS_DDR_DQ11_502, H5 PS_DDR_VRP_502, H6 PS_DDR_VREF0_502, J1 PS_DDR_DQ15_502, J3 PS_DDR_DQ12_502, J4 PS_DDR_A9_502, J5 PS_DDR_BA2_502, K1 PS_DDR_A8_502, K2 PS_DDR_A1_502, K3 PS_DDR_A3_502, K4 PS_DDR_A7_502, L1 PS_DDR_A5_502, L2 PS_DDR_CKP_502, L4 PS_DDR_A6_502, L5 PS_DDR_BA0_502, M2 PS_DDR_CKN_502, M3 PS_DDR_A2_502, M4 PS_DDR_A4_502, M5 PS_DDR_WE_B_502, N1 PS_DDR_CS_B_502, N2 PS_DDR_A0_502, N3 PS_DDR_CKE_502, N5 PS_DDR_ODT_502, P1 PS_DDR_DQ16_502, P3 PS_DDR_DQ17_502, P4 PS_DDR_RAS_B_502, P5 PS_DDR_CAS_B_502, P6 PS_DDR_VREF1_502, R1 PS_DDR_DQ19_502, R2 PS_DDR_DQS_P2_502, R3 PS_DDR_DQ18_502, R4 PS_DDR_BA1_502, T1 PS_DDR_DM2_502, T2 PS_DDR_DQS_N2_502, T4 PS_DDR_DQ20_502, U2 PS_DDR_DQ22_502, U3 PS_DDR_DQ23_502, U4 PS_DDR_DQ21_502, V1 PS_DDR_DQ24_502, V2 PS_DDR_DQ30_502, V3 PS_DDR_DQ31_502, W1 PS_DDR_DQ26_502, W3 PS_DDR_DQ29_502, W4 PS_DDR_DQS_N3_502, W5 PS_DDR_DQS_P3_502, Y1 PS_DDR_DM3_502, Y2 PS_DDR_DQ28_502, Y3 PS_DDR_DQ25_502, Y4 PS_DDR_DQ27_502
part F pins: A5 PS_MIO6_500, A6 PS_MIO5_500, A7 PS_MIO1_500, B5 PS_MIO9_500, B7 PS_MIO4_500, B8 PS_MIO2_500, C5 PS_MIO14_500, C6 PS_MIO11_500, C7 PS_POR_B_500, C8 PS_MIO15_500, D5 PS_MIO8_500, D6 PS_MIO3_500, D8 PS_MIO7_500, D9 PS_MIO12_500, E6 PS_MIO0_500, E7 PS_CLK_500, E8 PS_MIO13_500, E9 PS_MIO10_500
part G pins: A9 PS_MIO43_501, A10 PS_MIO37_501, A11 PS_MIO36_501, A12 PS_MIO34_501, A14 PS_MIO32_501, A15 PS_MIO26_501, A16 PS_MIO24_501, A17 PS_MIO20_501, A19 PS_MIO16_501, B9 PS_MIO51_501, B10 PS_SRST_B_501, B12 PS_MIO48_501, B13 PS_MIO50_501, B14 PS_MIO47_501, B15 PS_MIO45_501, B17 PS_MIO22_501, B18 PS_MIO18_501, C10 PS_MIO52_501, C11 PS_MIO53_501, C12 PS_MIO49_501, C13 PS_MIO29_501, C15 PS_MIO30_501, C16 PS_MIO28_501, C17 PS_MIO41_501, C18 PS_MIO39_501, D10 PS_MIO19_501, D11 PS_MIO23_501, D13 PS_MIO27_501, D14 PS_MIO40_501, D15 PS_MIO33_501, D16 PS_MIO46_501, E11 PS_MIO_VREF_501, E12 PS_MIO42_501, E13 PS_MIO38_501, E14 PS_MIO17_501, E16 PS_MIO31_501, F12 PS_MIO35_501, F13 PS_MIO44_501, F14 PS_MIO21_501, F15 PS_MIO25_501
part H pins: A3 VCCO_DDR_502_1, A13 VCCO_MIO1_501_1, B6 VCCO_MIO0_500_1, B16 VCCO_MIO1_501_2, C19 VCCO_35_1, D2 VCCO_DDR_502_2, D7 VCCO_MIO0_500_2, D12 VCCO_MIO1_501_3, E5 VCCO_DDR_502_3, E15 VCCO_MIO1_501_4, F8 VCCPAUX_1, F11 VCCBATT_0, F18 VCCO_35_2, G1 VCCO_DDR_502_4, G7 VCCPINT_1, G8 VCCPLL, G9 VCCPAUX_2, G11 VCCBRAM_1, G13 VCCINT_1, H4 VCCO_DDR_502_5, H8 VCCPAUX_3, H10 VCCBRAM_2, H12 VCCINT_2, H14 VCCO_35_3, J7 VCCPINT_2, J11 VCCAUX_1, J13 VCCINT_3, J17 VCCO_35_4, K6 VCCO_0, K8 VCCPAUX_4, K12 VCCINT_4, K20 VCCO_35_5, L3 VCCO_DDR_502_6, L7 VCCPINT_3, L11 VCCAUX_2, L13 VCCINT_5, M8 VCCPAUX_5, M12 VCCINT_6, M16 VCCO_35_6, N7 VCCPINT_4, N9 VCCAUX_3, N11 VCCAUX_4, N13 VCCINT_7, N19 VCCO_34_1, P2 VCCO_DDR_502_7, P8 VCCPINT_5, P10 VCCAUX_5, P12 VCCINT_8, R5 VCCO_DDR_502_8, R7 VCCPINT_6, R9 VCCAUX_6, R13 VCCINT_9, R15 VCCO_34_2, T8 VCCO_13_1, T18 VCCO_34_3, U1 VCCO_DDR_502_9, U11 VCCO_13_2, V4 VCCO_DDR_502_10, V14 VCCO_34_4, W7 VCCO_13_3, W17 VCCO_34_5, Y10 VCCO_13_4, Y20 VCCO_34_6
part I pins: A8 GND_1, A18 GND_2, B1 GND_3, B11 GND_4, C4 GND_5, C9 GND_6, C14 GND_7, D17 GND_8, E10 GND_9, E20 GND_10, F3 GND_11, F7 GND_12, G10 GND_13, G12 GND_14, G16 GND_15, H7 GND_16, H9 GND_17, H11 GND_18, H13 GND_19, H19 GND_20, J2 GND_21, J8 GND_22, J12 GND_23, K5 GND_24, K7 GND_25, K11 GND_26, K13 GND_27, K15 GND_28, L8 GND_29, L12 GND_30, L18 GND_31, M1 GND_32, M7 GND_33, M11 GND_34, M13 GND_35, N4 GND_36, N8 GND_37, N10 GND_38, N12 GND_39, N14 GND_40, P7 GND_41, P9 GND_42, P11 GND_43, P13 GND_44, P17 GND_45, R8 GND_46, R12 GND_47, R20 GND_48, T3 GND_49, T7 GND_50, T13 GND_51, U6 GND_52, U16 GND_53, V9 GND_54, V19 GND_55, W2 GND_56, W12 GND_57, Y5 GND_58, Y15 GND_59

## XR75100EL-F
designator D?, comment XR75100
XR75100 40V Synchronous Step Down COT Controller; Part Number: XR75100EL-F; Manufacturer: Exar Corporation; BOM1: QFN-16 XR75100EL-F; ValueBOM: XR75100EL-F   Exar Corporation; Value: XR75100; Package: QFN-16; BOM2: QFN-16 XR75100EL-F
footprint QFN50P300X300X90-17N
pins: 1 GL, 2 NC, 3 SW, 4 GH, 5 BST, 6 ILIM, 7 EN, 8 TON, 9 SS, 10 PGOOD, 11 FB, 12 AGND, 13 AGND, 14 VIN, 15 VCC, 16 PGND, 17 EPAD